# Altium footprint library 691 309 310 0xx.PcbLib: 9 footprints
Each footprint in its own frame and in the unit in brackets; x right, y up, seen from the top. Pads: shape width x height; smd on the part's side, far side on the other; paste and mask are expansions set on the pad; w line width, h text height; cw(c..) or ccw(c..) is an arc to the next point about the centre after c.
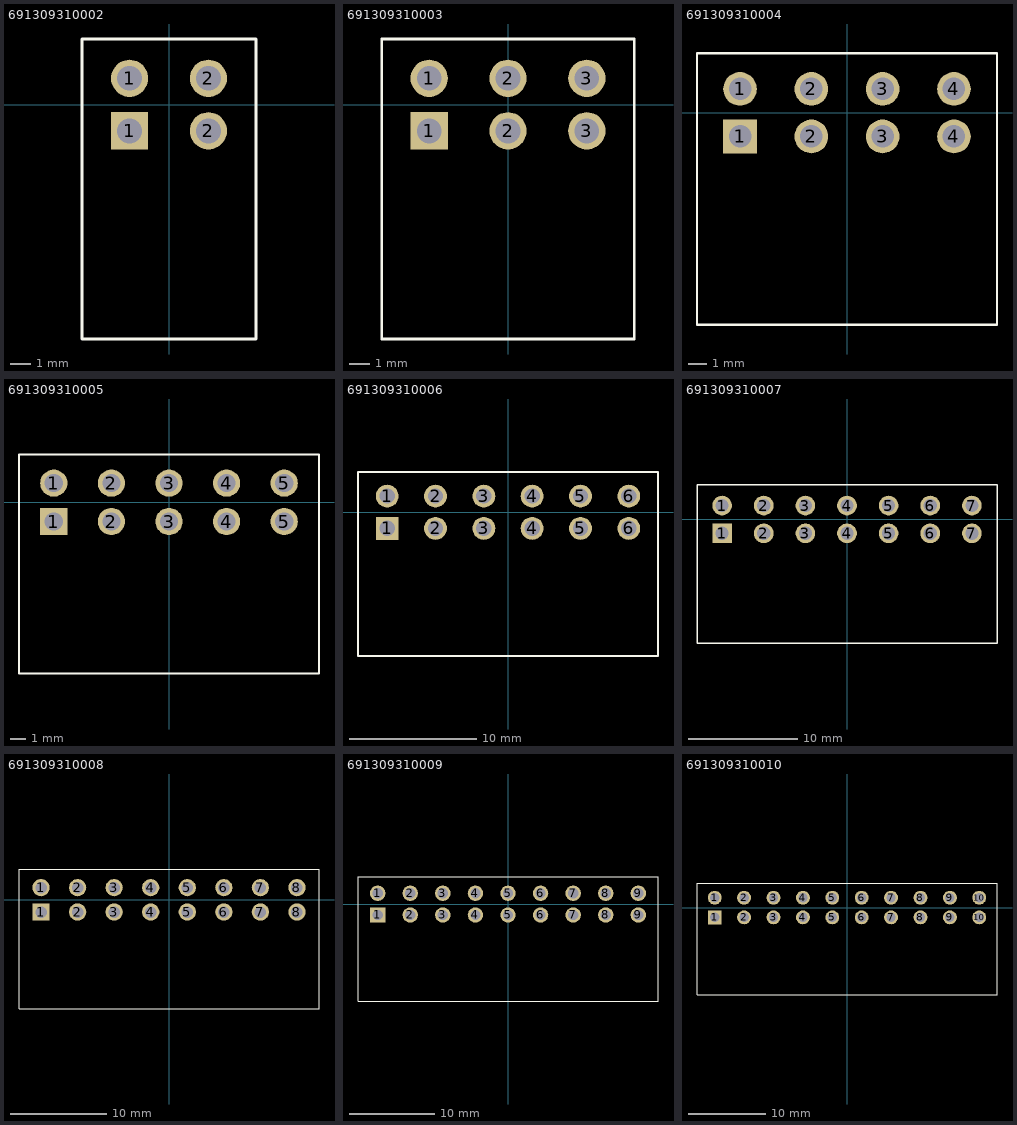
[diagram p0: the footprints below, top view; thin cyan lines are the x and y axes]

## 691309310002 [mm] "Serie 3093 - 3.81 mm _ 2 pins"
height 6.6
pads (4):
  rect 1.8x1.8 hole 1.2: 1(-1.905,-1.27)
  round 1.8 hole 1.2: 1(-1.905,1.27) 2(1.905,-1.27) 2(1.905,1.27)
Top Overlay:
  lines w0.127: -4.205,-11.33 4.205,-11.33 4.205,3.17 -4.205,3.17 -4.205,-11.33
3D body: height 6.9, standoff -3.3, extent -4.21,-11.3 4.2,3.2

## 691309310003 [mm] "Serie 3093 - 3.81 mm _ 3 pins"
height 6.6
pads (6):
  rect 1.8x1.8 hole 1.2: 1(-3.81,-1.27)
  round 1.8 hole 1.2: 1(-3.81,1.27) 2(0,-1.27) 2(0,1.27) 3(3.81,-1.27) 3(3.81,1.27)
Top Overlay:
  lines w0.127: -6.11,-11.33 6.11,-11.33 6.11,3.17 -6.11,3.17 -6.11,-11.33
3D body: height 6.9, standoff -3.3, extent -6.1,-11.3 6.12,3.2

## 691309310004 [mm] "Serie 3093 - 3.81 mm _ 4 pins"
height 6.6
pads (8):
  rect 1.8x1.8 hole 1.2: 1(-5.715,-1.27)
  round 1.8 hole 1.2: 1(-5.715,1.27) 2(-1.905,-1.27) 2(-1.905,1.27) 3(1.905,-1.27) 3(1.905,1.27) 4(5.715,-1.27) 4(5.715,1.27)
Top Overlay:
  lines w0.127: -8.015,-11.33 8.015,-11.33 8.015,3.17 -8.015,3.17 -8.015,-11.33
3D body: height 6.9, standoff -3.3, extent -8,-11.3 8.03,3.2

## 691309310005 [mm] "Serie 3093 - 3.81 mm _ 5 pins"
height 6.6
pads (10):
  rect 1.8x1.8 hole 1.2: 1(-7.62,-1.27)
  round 1.8 hole 1.2: 1(-7.62,1.27) 2(-3.81,-1.27) 2(-3.81,1.27) 3(0,-1.27) 3(0,1.27) 4(3.81,-1.27) 4(3.81,1.27) 5(7.62,-1.27) 5(7.62,1.27)
Top Overlay:
  lines w0.127: -9.92,-11.33 9.92,-11.33 9.92,3.17 -9.92,3.17 -9.92,-11.33
3D body: height 6.9, standoff -3.3, extent -9.9,-11.3 9.94,3.2

## 691309310006 [mm] "Serie 3093 - 3.81 mm _ 6 pins"
height 6.6
pads (12):
  rect 1.8x1.8 hole 1.2: 1(-9.525,-1.27)
  round 1.8 hole 1.2: 1(-9.525,1.27) 2(-5.715,-1.27) 2(-5.715,1.27) 3(-1.905,-1.27) 3(-1.905,1.27) 4(1.905,-1.27) 4(1.905,1.27) 5(5.715,-1.27) 5(5.715,1.27) 6(9.525,-1.27) 6(9.525,1.27)
Top Overlay:
  lines w0.127: -11.825,-11.33 11.825,-11.33 11.825,3.17 -11.825,3.17 -11.825,-11.33
3D body: height 6.9, standoff -3.3, extent -11.8,-11.35 11.85,3.15

## 691309310007 [mm] "Serie 3093 - 3.81 mm _ 7 pins"
height 6.6
pads (14):
  rect 1.8x1.8 hole 1.2: 1(-11.43,-1.27)
  round 1.8 hole 1.2: 1(-11.43,1.27) 2(-7.62,-1.27) 2(-7.62,1.27) 3(-3.81,-1.27) 3(-3.81,1.27) 4(0,-1.27) 4(0,1.27) 5(3.81,-1.27) 5(3.81,1.27) 6(7.62,-1.27) 6(7.62,1.27) 7(11.43,-1.27) 7(11.43,1.27)
Top Overlay:
  lines w0.127: -13.73,-11.33 13.73,-11.33 13.73,3.17 -13.73,3.17 -13.73,-11.33
3D body: height 6.9, standoff -3.3, extent -13.7,-11.3 13.76,3.2

## 691309310008 [mm] "Serie 3093 - 3.81 mm _ 8 pins"
height 6.6
pads (16):
  rect 1.8x1.8 hole 1.2: 1(-13.335,-1.27)
  round 1.8 hole 1.2: 1(-13.335,1.27) 2(-9.525,-1.27) 2(-9.525,1.27) 3(-5.715,-1.27) 3(-5.715,1.27) 4(-1.905,-1.27) 4(-1.905,1.27) 5(1.905,-1.27) 5(1.905,1.27) 6(5.715,-1.27) 6(5.715,1.27) 7(9.525,-1.27) 7(9.525,1.27) 8(13.335,-1.27) 8(13.335,1.27)
Top Overlay:
  lines w0.127: -15.635,-11.33 15.635,-11.33 15.635,3.17 -15.635,3.17 -15.635,-11.33
3D body: height 6.9, standoff -3.3, extent -15.6,-11.3 15.67,3.2

## 691309310009 [mm] "Serie 3093 - 3.81 mm _ 9 pins"
height 6.6
pads (18):
  rect 1.8x1.8 hole 1.2: 1(-15.24,-1.27)
  round 1.8 hole 1.2: 1(-15.24,1.27) 2(-11.43,-1.27) 2(-11.43,1.27) 3(-7.62,-1.27) 3(-7.62,1.27) 4(-3.81,-1.27) 4(-3.81,1.27) 5(0,-1.27) 5(0,1.27) 6(3.81,-1.27) 6(3.81,1.27) 7(7.62,-1.27) 7(7.62,1.27) 8(11.43,-1.27) 8(11.43,1.27) 9(15.24,-1.27) 9(15.24,1.27)
Top Overlay:
  lines w0.127: -17.54,-11.33 17.54,-11.33 17.54,3.17 -17.54,3.17 -17.54,-11.33
3D body: height 6.9, standoff -3.3, extent -17.5,-11.3 17.58,3.2

## 691309310010 [mm] "Serie 3093 - 3.81 mm _ 10 pins"
height 6.6
pads (20):
  rect 1.8x1.8 hole 1.2: 1(-17.145,-1.27)
  round 1.8 hole 1.2: 1(-17.145,1.27) 2(-13.335,-1.27) 2(-13.335,1.27) 3(-9.525,-1.27) 3(-9.525,1.27) 4(-5.715,-1.27) 4(-5.715,1.27) 5(-1.905,-1.27) 5(-1.905,1.27) 6(1.905,-1.27) 6(1.905,1.27) 7(5.715,-1.27) 7(5.715,1.27) 8(9.525,-1.27) 8(9.525,1.27) 9(13.335,-1.27) 9(13.335,1.27) 10(17.145,-1.27) 10(17.145,1.27)
Top Overlay:
  lines w0.127: -19.445,-11.33 19.445,-11.33 19.445,3.17 -19.445,3.17 -19.445,-11.33
3D body: height 6.9, standoff -3.3, extent -19.5,-11.3 19.39,3.2